# Altium footprint library BSAC.PcbLib: 26 footprints (part 1 of 2)
Each footprint in its own frame and in the unit in brackets; x right, y up, seen from the top. Pads: shape width x height; smd on the part's side, far side on the other; paste and mask are expansions set on the pad; w line width, h text height; cw(c..) or ccw(c..) is an arc to the next point about the centre after c.
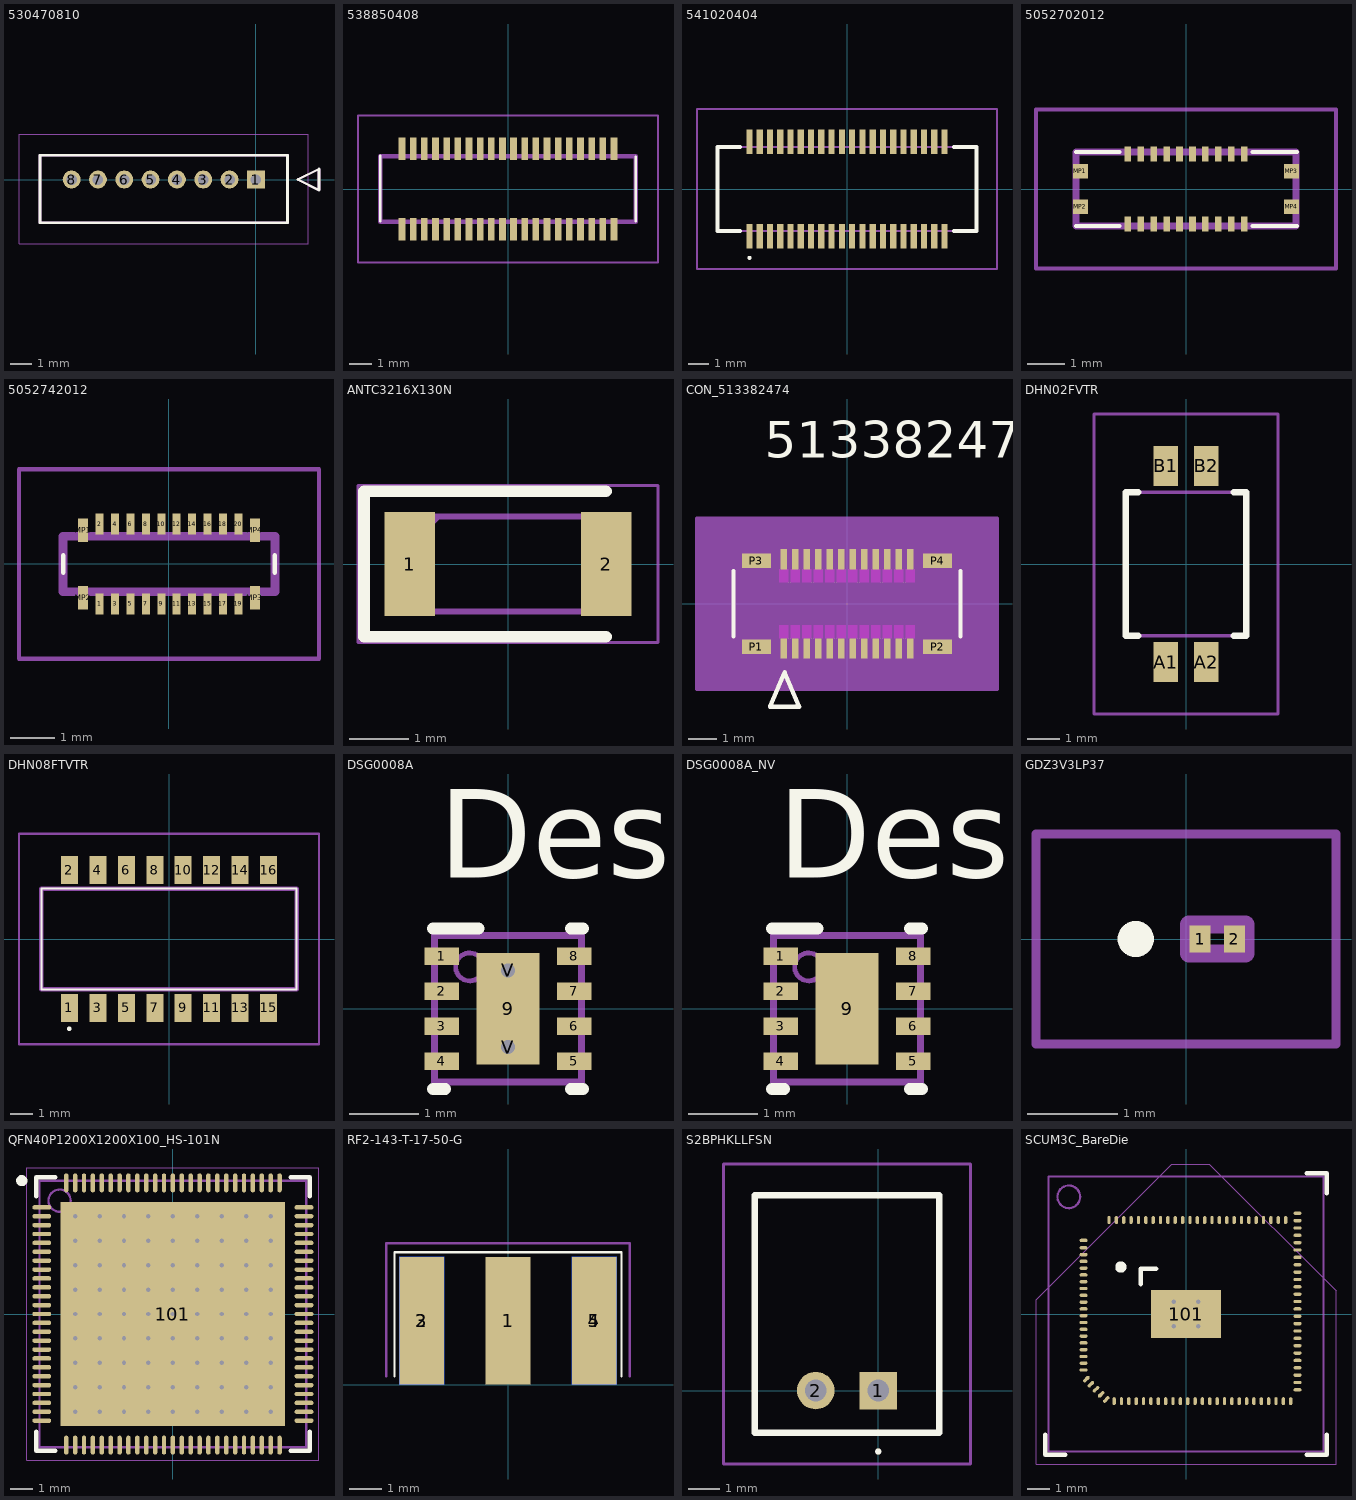
[diagram p0: the footprints below, top view; thin cyan lines are the x and y axes]

## 530470810 [mm]
pads (8):
  rect 0.85x0.85 hole 0.5: 1(0,0)
  round 0.85 hole 0.5: 2(-1.25,0) 3(-2.5,0) 4(-3.75,0) 5(-5,0) 6(-6.25,0) 7(-7.5,0) 8(-8.75,0)
Top Overlay:
  lines w0.127: -10.25,-2.05 1.5,-2.05 1.5,1.15 -10.25,1.15 -10.25,-2.05 ; 2,0 3,-0.5 3,0.5 2,0
Mechanical 13:
  lines w0.127: -10.25,-2.05 1.5,-2.05 1.5,1.15 -10.25,1.15 -10.25,-2.05 ; 2,0 3,-0.5 3,0.5 2,0
Mechanical 15:
  lines w0.05: -11.25,-3.05 2.5,-3.05 2.5,2.15 -11.25,2.15 -11.25,-3.05
3D body "530470810.stp": height 4, standoff -2.5, extent -10.275,-2 1.475,1.2

## 538850408 [mm]
pads (40):
  rect 0.3x1 smd: 1(-4.75,-1.8) 2(-4.75,1.8) 3(-4.25,-1.8) 4(-4.25,1.8) 5(-3.75,-1.8) 6(-3.75,1.8) 7(-3.25,-1.8) 8(-3.25,1.8) 9(-2.75,-1.8) 10(-2.75,1.8) 11(-2.25,-1.8) 12(-2.25,1.8) 13(-1.75,-1.8) 14(-1.75,1.8) 15(-1.25,-1.8) 16(-1.25,1.8) 17(-0.75,-1.8) 18(-0.75,1.8) 19(-0.25,-1.8) 20(-0.25,1.8) 21(0.25,-1.8) 22(0.25,1.8) 23(0.75,-1.8) 24(0.75,1.8) 25(1.25,-1.8) 26(1.25,1.8) 27(1.75,-1.8) 28(1.75,1.8) 29(2.25,-1.8) 30(2.25,1.8) 31(2.75,-1.8) 32(2.75,1.8) 33(3.25,-1.8) 34(3.25,1.8) 35(3.75,-1.8) 36(3.75,1.8) 37(4.25,-1.8) 38(4.25,1.8) 39(4.75,-1.8) 40(4.75,1.8)
Top Overlay:
  lines w0.1: -5.725,-1.46 -5.725,1.5 ; 5.725,-1.46 5.725,1.46
Mechanical 13:
  lines w0.2: -5.725,-1.46 -5.725,1.46 5.725,1.46 5.725,-1.46 -5.725,-1.46
Mechanical 15:
  lines w0.1: -6.725,-3.3 -6.725,3.3 6.725,3.3 6.725,-3.3 -6.725,-3.3
3D body "53885-0408.stp": height 1.58, standoff 0, extent -5.725,-2.1 5.725,2.1

## 541020404 [mm]
pads (40):
  rect 0.3x1.2 smd: 1(-4.75,-2.3) 2(-4.75,2.3) 3(-4.25,-2.3) 4(-4.25,2.3) 5(-3.75,-2.3) 6(-3.75,2.3) 7(-3.25,-2.3) 8(-3.25,2.3) 9(-2.75,-2.3) 10(-2.75,2.3) 11(-2.25,-2.3) 12(-2.25,2.3) 13(-1.75,-2.3) 14(-1.75,2.3) 15(-1.25,-2.3) 16(-1.25,2.3) 17(-0.75,-2.3) 18(-0.75,2.3) 19(-0.25,-2.3) 20(-0.25,2.3) 21(0.25,-2.3) 22(0.25,2.3) 23(0.75,-2.3) 24(0.75,2.3) 25(1.25,-2.3) 26(1.25,2.3) 27(1.75,-2.3) 28(1.75,2.3) 29(2.25,-2.3) 30(2.25,2.3) 31(2.75,-2.3) 32(2.75,2.3) 33(3.25,-2.3) 34(3.25,2.3) 35(3.75,-2.3) 36(3.75,2.3) 37(4.25,-2.3) 38(4.25,2.3) 39(4.75,-2.3) 40(4.75,2.3)
Top Overlay:
  lines w0.1: -4.75,-3.4 ccw(c-4.75,-3.35) -4.75,-3.3 ccw(c-4.75,-3.35) -4.75,-3.4
  lines w0.2: -5.2,-2.05 -6.3,-2.05 -6.3,2.05 -5.2,2.05 ; 5.2,-2.05 6.3,-2.05 6.3,2.05 5.2,2.05
Mechanical 13:
  lines w0.1: -6.3,-2.05 6.3,-2.05 6.3,2.05 -6.3,2.05 -6.3,-2.05
Mechanical 15:
  lines w0.1: -7.3,-3.9 7.3,-3.9 7.3,3.9 -7.3,3.9 -7.3,-3.9
3D body "54102-0404.stp": height 2.1, standoff 0, extent -6.3,-2.65 6.3,2.65

## 5052702012 [mm]
pads (24):
  rect 0.18x0.4 smd: 1(-1.575,-0.95) 2(-1.575,0.95) 3(-1.225,-0.95) 4(-1.225,0.95) 5(-0.875,-0.95) 6(-0.875,0.95) 7(-0.525,-0.95) 8(-0.525,0.95) 9(-0.175,-0.95) 10(-0.175,0.95) 11(0.175,-0.95) 12(0.175,0.95) 13(0.525,-0.95) 14(0.525,0.95) 15(0.875,-0.95) 16(0.875,0.95) 17(1.225,-0.95) 18(1.225,0.95) 19(1.575,-0.95) 20(1.575,0.95)
  rect 0.4x0.385 smd: MP1(-2.855,0.482) MP2(-2.855,-0.482) MP3(2.855,0.482) MP4(2.855,-0.482)
Top Overlay:
  lines w0.1: -2.975,-1 -1.8,-1 ; -2.975,1 -1.8,1 ; 1.8,-1 3,-1 ; 1.8,1 3,1
Mechanical 13:
  lines w0.2: -2.975,-1 2.975,-1 2.975,1 -2.975,1 -2.975,-1
Mechanical 15:
  lines w0.1: -4.055,-2.15 4.055,-2.15 4.055,2.15 -4.055,2.15 -4.055,-2.15
3D body "505270-2012.stp": height 0.68, standoff 0, extent -2.975,-1 2.975,1

## 5052742012 [mm]
pads (24):
  rect 0.18x0.485 smd: 1(-1.575,-0.907) 2(-1.575,0.908) 3(-1.225,-0.907) 4(-1.225,0.908) 5(-0.875,-0.907) 6(-0.875,0.908) 7(-0.525,-0.907) 8(-0.525,0.908) 9(-0.175,-0.907) 10(-0.175,0.908) 11(0.175,-0.907) 12(0.175,0.908) 13(0.525,-0.907) 14(0.525,0.908) 15(0.875,-0.907) 16(0.875,0.908) 17(1.225,-0.907) 18(1.225,0.908) 19(1.575,-0.907) 20(1.575,0.908)
  rect 0.23x0.535 smd: MP1(-1.95,0.768) MP2(-1.95,-0.768) MP3(1.95,-0.768) MP4(1.95,0.768)
Top Overlay:
  lines w0.1: -2.4,-0.2 -2.4,0.2 ; 2.4,-0.2 2.4,0.2
Mechanical 13:
  lines w0.2: -2.405,-0.63 -2.405,0.63 2.405,0.63 2.405,-0.63 -2.405,-0.63
Mechanical 15:
  lines w0.1: -3.405,-2.15 -3.405,2.15 3.405,2.15 3.405,-2.15 -3.405,-2.15
3D body "505274-2012.stp": height 0.65, standoff 0, extent -2.405,-1 2.405,1

## ANTC3216X130N [mm]
pads (2):
  rect 0.85x1.75 smd: 1(-1.65,0) 2(1.65,0)
Top Overlay:
  lines w0.2: 1.65,-1.225 -2.425,-1.225 -2.425,1.225 1.65,1.225
Mechanical 13:
  lines w0.1: -1.6,0.375 -1.175,0.8 ; -1.6,-0.8 -1.6,0.8 1.6,0.8 1.6,-0.8 -1.6,-0.8
Mechanical 15:
  lines w0.05: -2.525,-1.325 -2.525,1.325 2.525,1.325 2.525,-1.325 -2.525,-1.325
3D body "RFANT3216120A5T.stp": height 1.3, standoff 0, extent -1.6,-0.8 1.6,0.8

## CON_513382474 [mm]
pads (28):
  rect 0.22x0.7 smd paste+0 mask+0.025: 1(-2.2,-1.55) 2(-1.8,-1.55) 3(-1.4,-1.55) 4(-1,-1.55) 5(-0.6,-1.55) 6(-0.2,-1.55) 7(0.2,-1.55) 8(0.6,-1.55) 9(1,-1.55) 10(1.4,-1.55) 11(1.8,-1.55) 12(2.2,-1.55) 13(-2.2,1.55) 14(-1.8,1.55) 15(-1.4,1.55) 16(-1,1.55) 17(-0.6,1.55) 18(-0.2,1.55) 19(0.2,1.55) 20(0.6,1.55) 21(1,1.55) 22(1.4,1.55) 23(1.8,1.55) 24(2.2,1.55)
  rect 1x0.5 smd paste+0 mask+0.025: P1(-3.15,-1.5) P2(3.15,-1.5) P3(-3.15,1.5) P4(3.15,1.5)
Top Overlay:
  lines w0.152: -3.95,-1.139 -3.95,1.139 ; 3.95,-1.139 3.95,1.139 ; -2.68,-3.582 -1.664,-3.582 -2.172,-2.388 -2.68,-3.582
  text "513382474" at -2.857,5.08 h1.27
Keep-Out Layer:
  region: 1.65,-1.2 1.65,-0.75 1.95,-0.75 1.95,-1.2
  region: 2.051,0.75 2.051,1.2 2.351,1.2 2.351,0.75
  region: -2.35,0.75 -2.35,1.2 -2.05,1.2 -2.05,0.75
  region: -1.95,0.75 -1.95,1.2 -1.65,1.2 -1.65,0.75
  region: -1.55,0.75 -1.55,1.2 -1.25,1.2 -1.25,0.75
  region: -1.15,0.75 -1.15,1.2 -0.85,1.2 -0.85,0.75
  region: -0.75,0.75 -0.75,1.2 -0.45,1.2 -0.45,0.75
  region: -0.35,0.75 -0.35,1.2 -0.05,1.2 -0.05,0.75
  region: 0.05,0.75 0.05,1.2 0.35,1.2 0.35,0.75
  region: 0.45,0.75 0.45,1.2 0.75,1.2 0.75,0.75
  region: 0.85,0.75 0.85,1.2 1.15,1.2 1.15,0.75
  region: 1.25,0.75 1.25,1.2 1.55,1.2 1.55,0.75
  region: 1.65,0.75 1.65,1.2 1.95,1.2 1.95,0.75
  region: 2.051,-1.2 2.051,-0.75 2.351,-0.75 2.351,-1.2
  region: -2.35,-1.2 -2.35,-0.75 -2.05,-0.75 -2.05,-1.2
  region: -1.95,-1.2 -1.95,-0.75 -1.65,-0.75 -1.65,-1.2
  region: -1.55,-1.2 -1.55,-0.75 -1.25,-0.75 -1.25,-1.2
  region: -1.15,-1.2 -1.15,-0.75 -0.85,-0.75 -0.85,-1.2
  region: -0.75,-1.2 -0.75,-0.75 -0.45,-0.75 -0.45,-1.2
  region: -0.35,-1.2 -0.35,-0.75 -0.05,-0.75 -0.05,-1.2
  region: 0.05,-1.2 0.05,-0.75 0.35,-0.75 0.35,-1.2
  region: 0.45,-1.2 0.45,-0.75 0.75,-0.75 0.75,-1.2
  region: 0.85,-1.2 0.85,-0.75 1.15,-0.75 1.15,-1.2
  region: 1.25,-1.2 1.25,-0.75 1.55,-0.75 1.55,-1.2
Mechanical 13:
  lines w0.127: -3.95,-1.7 3.95,-1.7 3.95,1.7 -3.95,1.7 -3.95,-1.7 ; -2.68,-3.582 -1.664,-3.582 -2.172,-2.388 -2.68,-3.582
  text "513382474" at -2.857,5.08 h1.27
Mechanical 15:
  region: 5.22,2.97 -5.22,2.97 -5.22,-2.97 5.22,-2.97
  lines w0.127: -5.22,-2.97 -5.22,2.97 5.22,2.97 5.22,-2.97 -5.22,-2.97
3D body "513382474.stp": height 1.28, standoff -0.12, extent -3.95,-1.7 3.95,1.7

## DHN02FVTR [mm]
pads (4):
  rect 0.76x1.25 smd: A1(-0.635,-3.075) A2(0.635,-3.075) B1(-0.635,3.075) B2(0.635,3.075)
Top Overlay:
  lines w0.2: -1.5,-2.25 -1.885,-2.25 -1.885,2.25 -1.5,2.25 ; 1.5,-2.25 1.885,-2.25 1.885,2.25 1.5,2.25
Mechanical 13:
  lines w0.1: -1.885,-2.25 1.885,-2.25 1.885,2.25 -1.885,2.25 -1.885,-2.25
Mechanical 15:
  lines w0.1: -2.885,-4.7 2.885,-4.7 2.885,4.7 -2.885,4.7 -2.885,-4.7
3D body "DHN-02F-V-T_R.stp": height 1.6, standoff 0, extent -1.9,-3.35 1.9,3.35

## DHN08FTVTR [mm]
pads (16):
  rect 0.76x1.25 smd: 1(-4.445,-3.075) 2(-4.445,3.075) 3(-3.175,-3.075) 4(-3.175,3.075) 5(-1.905,-3.075) 6(-1.905,3.075) 7(-0.635,-3.075) 8(-0.635,3.075) 9(0.635,-3.075) 10(0.635,3.075) 11(1.905,-3.075) 12(1.905,3.075) 13(3.175,-3.075) 14(3.175,3.075) 15(4.445,-3.075) 16(4.445,3.075)
Top Overlay:
  lines w0.1: -5.695,-2.25 -5.695,2.25 5.695,2.25 5.695,-2.25 -5.695,-2.25 ; -4.5,-4 cw(c-4.45,-4) -4.4,-4 cw(c-4.45,-4) -4.5,-4
Mechanical 13:
  lines w0.2: -5.695,-2.25 -5.695,2.25 5.695,2.25 5.695,-2.25 -5.695,-2.25
Mechanical 15:
  lines w0.1: -6.695,-4.7 -6.695,4.7 6.695,4.7 6.695,-4.7 -6.695,-4.7
3D body "DHN-08F-T-V-T_R.stp": height 1.57, standoff 0, extent -5.695,-3.35 5.695,3.35

## DSG0008A [mm]
pads (11):
  rect 0.5x0.25 smd paste+0 mask+0.051: 1(-0.95,0.75) 2(-0.95,0.25) 3(-0.95,-0.25) 4(-0.95,-0.75) 5(0.95,-0.75) 6(0.95,-0.25) 7(0.95,0.25) 8(0.95,0.75)
  rect 0.9x1.6 smd paste-0.45 mask+0.051: 9(0,0)
  round 0.5 / inner round 1.524 / far side round 0.5 hole 0.203 paste-2539.97 mask+0.076: V(0,-0.55) V(0,0.55)
Top Overlay:
  lines w0.17: -1.075,-1.15 -0.9,-1.15 ; -1.075,1.15 -0.425,1.15 ; 0.9,-1.15 1.075,-1.15 ; 0.9,1.15 1.075,1.15
  text "Designator734" at -0.991,1.88 h1.27
Top Paste:
  region: -0.449,0.139 -0.45,0.149 -0.45,0.751 -0.449,0.761 -0.446,0.77 -0.442,0.778 -0.436,0.786 -0.428,0.792 -0.42,0.796 -0.411,0.799 -0.401,0.8 0.401,0.8 0.411,0.799 0.42,0.796 0.428,0.792 0.436,0.786 0.442,0.778 0.446,0.77 0.449,0.761 0.45,0.751 0.45,0.149 0.449,0.139 0.446,0.13 0.442,0.122 0.436,0.114 0.428,0.108 0.42,0.104 0.411,0.101 0.401,0.1 -0.401,0.1 -0.411,0.101 -0.42,0.104 -0.428,0.108 -0.436,0.114 -0.442,0.122 -0.446,0.13
  region: -0.449,-0.761 -0.45,-0.751 -0.45,-0.149 -0.449,-0.139 -0.446,-0.13 -0.442,-0.122 -0.436,-0.114 -0.428,-0.108 -0.42,-0.104 -0.411,-0.101 -0.401,-0.1 0.401,-0.1 0.411,-0.101 0.42,-0.104 0.428,-0.108 0.436,-0.114 0.442,-0.122 0.446,-0.13 0.449,-0.139 0.45,-0.149 0.45,-0.751 0.449,-0.761 0.446,-0.77 0.442,-0.778 0.436,-0.786 0.428,-0.792 0.42,-0.796 0.411,-0.799 0.401,-0.8 -0.401,-0.8 -0.411,-0.799 -0.42,-0.796 -0.428,-0.792 -0.436,-0.786 -0.442,-0.778 -0.446,-0.77
Mechanical 13:
  circle w0.07: c-0.55,0.6 r0.2
  lines w0.1: -1.05,-1.05 -1.05,1.05 1.05,1.05 1.05,-1.05 -1.05,-1.05

## DSG0008A_NV [mm]
pads (9):
  rect 0.5x0.25 smd paste+0 mask+0.051: 1(-0.95,0.75) 2(-0.95,0.25) 3(-0.95,-0.25) 4(-0.95,-0.75) 5(0.95,-0.75) 6(0.95,-0.25) 7(0.95,0.25) 8(0.95,0.75)
  rect 0.9x1.6 smd paste-0.45 mask+0.051: 9(0,0)
Top Overlay:
  lines w0.17: -1.075,-1.15 -0.9,-1.15 ; -1.075,1.15 -0.425,1.15 ; 0.9,-1.15 1.075,-1.15 ; 0.9,1.15 1.075,1.15
  text "Designator735" at -0.991,1.88 h1.27
Top Paste:
  region: -0.449,-0.761 -0.45,-0.751 -0.45,-0.149 -0.449,-0.139 -0.446,-0.13 -0.442,-0.122 -0.436,-0.114 -0.428,-0.108 -0.42,-0.104 -0.411,-0.101 -0.401,-0.1 0.401,-0.1 0.411,-0.101 0.42,-0.104 0.428,-0.108 0.436,-0.114 0.442,-0.122 0.446,-0.13 0.449,-0.139 0.45,-0.149 0.45,-0.751 0.449,-0.761 0.446,-0.77 0.442,-0.778 0.436,-0.786 0.428,-0.792 0.42,-0.796 0.411,-0.799 0.401,-0.8 -0.401,-0.8 -0.411,-0.799 -0.42,-0.796 -0.428,-0.792 -0.436,-0.786 -0.442,-0.778 -0.446,-0.77
  region: -0.449,0.139 -0.45,0.149 -0.45,0.751 -0.449,0.761 -0.446,0.77 -0.442,0.778 -0.436,0.786 -0.428,0.792 -0.42,0.796 -0.411,0.799 -0.401,0.8 0.401,0.8 0.411,0.799 0.42,0.796 0.428,0.792 0.436,0.786 0.442,0.778 0.446,0.77 0.449,0.761 0.45,0.751 0.45,0.149 0.449,0.139 0.446,0.13 0.442,0.122 0.436,0.114 0.428,0.108 0.42,0.104 0.411,0.101 0.401,0.1 -0.401,0.1 -0.411,0.101 -0.42,0.104 -0.428,0.108 -0.436,0.114 -0.442,0.122 -0.446,0.13
Mechanical 13:
  circle w0.07: c-0.55,0.6 r0.2
  lines w0.1: -1.05,-1.05 1.05,-1.05 1.05,1.05 -1.05,1.05 -1.05,-1.05

## GDZ3V3LP37 [mm]
pads (2):
  rect 0.23x0.3 smd: 1(0.155,0) 2(0.535,0)
Top Overlay:
  lines w0.2: -0.555,-0.1 ccw(c-0.555,0) -0.555,0.1 ccw(c-0.555,0) -0.555,-0.1
Mechanical 13:
  lines w0.2: 0.035,-0.16 0.655,-0.16 0.655,0.16 0.035,0.16 0.035,-0.16
Mechanical 15:
  lines w0.1: -1.655,-1.16 1.655,-1.16 1.655,1.16 -1.655,1.16 -1.655,-1.16
3D body "GDZ5V1LP3-7.stp": height 0.31, standoff 0, extent 0.045,-0.165 0.655,0.165

## QFN40P1200X1200X100_HS-101N [mm] "QFN, 100-Leads, Body 12.00x12.00mm, Pitch 0.40mm, Thermal Pad 10.10x10.10mm, IPC Medium Density"
height 1
pads (101):
  oval 0.85x0.2 smd: 1(-5.9,4.8) 2(-5.9,4.4) 3(-5.9,4) 4(-5.9,3.6) 5(-5.9,3.2) 6(-5.9,2.8) 7(-5.9,2.4) 8(-5.9,2) 9(-5.9,1.6) 10(-5.9,1.2) 11(-5.9,0.8) 12(-5.9,0.4) 13(-5.9,0) 14(-5.9,-0.4) 15(-5.9,-0.8) 16(-5.9,-1.2) 17(-5.9,-1.6) 18(-5.9,-2) 19(-5.9,-2.4) 20(-5.9,-2.8) 21(-5.9,-3.2) 22(-5.9,-3.6) 23(-5.9,-4) 24(-5.9,-4.4) 25(-5.9,-4.8) 51(5.9,-4.8) 52(5.9,-4.4) 53(5.9,-4) 54(5.9,-3.6) 55(5.9,-3.2) 56(5.9,-2.8) 57(5.9,-2.4) 58(5.9,-2) 59(5.9,-1.6) 60(5.9,-1.2) 61(5.9,-0.8) 62(5.9,-0.4) 63(5.9,0) 64(5.9,0.4) 65(5.9,0.8) 66(5.9,1.2) 67(5.9,1.6) 68(5.9,2) 69(5.9,2.4) 70(5.9,2.8) 71(5.9,3.2) 72(5.9,3.6) 73(5.9,4) 74(5.9,4.4) 75(5.9,4.8)
  oval 0.2x0.85 smd: 26(-4.8,-5.9) 27(-4.4,-5.9) 28(-4,-5.9) 29(-3.6,-5.9) 30(-3.2,-5.9) 31(-2.8,-5.9) 32(-2.4,-5.9) 33(-2,-5.9) 34(-1.6,-5.9) 35(-1.2,-5.9) 36(-0.8,-5.9) 37(-0.4,-5.9) 38(0,-5.9) 39(0.4,-5.9) 40(0.8,-5.9) 41(1.2,-5.9) 42(1.6,-5.9) 43(2,-5.9) 44(2.4,-5.9) 45(2.8,-5.9) 46(3.2,-5.9) 47(3.6,-5.9) 48(4,-5.9) 49(4.4,-5.9) 50(4.8,-5.9) 76(4.8,5.9) 77(4.4,5.9) 78(4,5.9) 79(3.6,5.9) 80(3.2,5.9) 81(2.8,5.9) 82(2.4,5.9) 83(2,5.9) 84(1.6,5.9) 85(1.2,5.9) 86(0.8,5.9) 87(0.4,5.9) 88(0,5.9) 89(-0.4,5.9) 90(-0.8,5.9) 91(-1.2,5.9) 92(-1.6,5.9) 93(-2,5.9) 94(-2.4,5.9) 95(-2.8,5.9) 96(-3.2,5.9) 97(-3.6,5.9) 98(-4,5.9) 99(-4.4,5.9) 100(-4.8,5.9)
  rect 10.1x10.1 smd: 101(0,0)
via 4.4,-4.4 diameter 0.5 hole 0.2
via 3.3,-4.4 diameter 0.5 hole 0.2
via 2.2,-4.4 diameter 0.5 hole 0.2
via 1.1,-4.4 diameter 0.5 hole 0.2
via 0,-4.4 diameter 0.5 hole 0.2
via -1.1,-4.4 diameter 0.5 hole 0.2
via -2.2,-4.4 diameter 0.5 hole 0.2
via -3.3,-4.4 diameter 0.5 hole 0.2
via -4.4,-4.4 diameter 0.5 hole 0.2
via 4.4,-3.3 diameter 0.5 hole 0.2
via 3.3,-3.3 diameter 0.5 hole 0.2
via 2.2,-3.3 diameter 0.5 hole 0.2
via 1.1,-3.3 diameter 0.5 hole 0.2
via 0,-3.3 diameter 0.5 hole 0.2
via -1.1,-3.3 diameter 0.5 hole 0.2
via -2.2,-3.3 diameter 0.5 hole 0.2
via -3.3,-3.3 diameter 0.5 hole 0.2
via -4.4,-3.3 diameter 0.5 hole 0.2
via 4.4,-2.2 diameter 0.5 hole 0.2
via 3.3,-2.2 diameter 0.5 hole 0.2
via 2.2,-2.2 diameter 0.5 hole 0.2
via 1.1,-2.2 diameter 0.5 hole 0.2
via 0,-2.2 diameter 0.5 hole 0.2
via -1.1,-2.2 diameter 0.5 hole 0.2
via -2.2,-2.2 diameter 0.5 hole 0.2
via -3.3,-2.2 diameter 0.5 hole 0.2
via -4.4,-2.2 diameter 0.5 hole 0.2
via 4.4,-1.1 diameter 0.5 hole 0.2
via 3.3,-1.1 diameter 0.5 hole 0.2
via 2.2,-1.1 diameter 0.5 hole 0.2
via 1.1,-1.1 diameter 0.5 hole 0.2
via 0,-1.1 diameter 0.5 hole 0.2
via -1.1,-1.1 diameter 0.5 hole 0.2
via -2.2,-1.1 diameter 0.5 hole 0.2
via -3.3,-1.1 diameter 0.5 hole 0.2
via -4.4,-1.1 diameter 0.5 hole 0.2
via 4.4,0 diameter 0.5 hole 0.2
via 3.3,0 diameter 0.5 hole 0.2
via 2.2,0 diameter 0.5 hole 0.2
via 1.1,0 diameter 0.5 hole 0.2
via 0,0 diameter 0.5 hole 0.2
via -1.1,0 diameter 0.5 hole 0.2
via -2.2,0 diameter 0.5 hole 0.2
via -3.3,0 diameter 0.5 hole 0.2
via -4.4,0 diameter 0.5 hole 0.2
via 4.4,1.1 diameter 0.5 hole 0.2
via 3.3,1.1 diameter 0.5 hole 0.2
via 2.2,1.1 diameter 0.5 hole 0.2
via 1.1,1.1 diameter 0.5 hole 0.2
via 0,1.1 diameter 0.5 hole 0.2
via -1.1,1.1 diameter 0.5 hole 0.2
via -2.2,1.1 diameter 0.5 hole 0.2
via -3.3,1.1 diameter 0.5 hole 0.2
via -4.4,1.1 diameter 0.5 hole 0.2
via 4.4,2.2 diameter 0.5 hole 0.2
via 3.3,2.2 diameter 0.5 hole 0.2
via 2.2,2.2 diameter 0.5 hole 0.2
via 1.1,2.2 diameter 0.5 hole 0.2
via 0,2.2 diameter 0.5 hole 0.2
via -1.1,2.2 diameter 0.5 hole 0.2
via -2.2,2.2 diameter 0.5 hole 0.2
via -3.3,2.2 diameter 0.5 hole 0.2
via -4.4,2.2 diameter 0.5 hole 0.2
via 4.4,3.3 diameter 0.5 hole 0.2
via 3.3,3.3 diameter 0.5 hole 0.2
via 2.2,3.3 diameter 0.5 hole 0.2
via 1.1,3.3 diameter 0.5 hole 0.2
via 0,3.3 diameter 0.5 hole 0.2
via -1.1,3.3 diameter 0.5 hole 0.2
via -2.2,3.3 diameter 0.5 hole 0.2
via -3.3,3.3 diameter 0.5 hole 0.2
via -4.4,3.3 diameter 0.5 hole 0.2
via 4.4,4.4 diameter 0.5 hole 0.2
via 3.3,4.4 diameter 0.5 hole 0.2
via 2.2,4.4 diameter 0.5 hole 0.2
via 1.1,4.4 diameter 0.5 hole 0.2
via 0,4.4 diameter 0.5 hole 0.2
via -1.1,4.4 diameter 0.5 hole 0.2
via -2.2,4.4 diameter 0.5 hole 0.2
via -3.3,4.4 diameter 0.5 hole 0.2
via -4.4,4.4 diameter 0.5 hole 0.2
Top Overlay:
  circle w0.25: c-6.8,6 r0.125
  lines w0.2: -6.15,-5.3 -6.15,-6.15 -5.3,-6.15 ; -6.15,5.3 -6.15,6.15 -5.3,6.15 ; 5.3,-6.15 6.15,-6.15 6.15,-5.3 ; 5.3,6.15 6.15,6.15 6.15,5.3
Top Assembly:
  circle w0.1: c-5.1,5.1 r0.5
  lines w0.1: -6,-6 6,-6 6,6 -6,6 -6,-6
Mechanical 15:
  lines w0.05: -6.575,-6.575 6.575,-6.575 6.575,6.575 -6.575,6.575 -6.575,-6.575
  lines w0.1: -0.5,0 0.5,0 ; 0,-0.5 0,0.5
3D body "QFN40P1200X1200X100_HS-101N.step": height 1, standoff 0, extent -6.001,-6.001 6.001,6.001

## RF2-143-T-17-50-G [mm]
pads (5):
  rect 1.4x4 smd paste-0.305 mask+0: 1(0,2)
  rect 1.4x4 smd far side paste-0.7 mask+0: 2(-2.7,2) 5(2.7,2)
  rect 1.4x4 smd paste-0.7 mask+0: 3(-2.7,2) 4(2.7,2)
Top Overlay:
  lines w0.076: -3.556,0.254 -3.556,4.15 3.556,4.15 3.556,0.254
Mechanical 15:
  lines w0.076: -3.81,0.254 -3.81,4.425 3.81,4.425 3.81,0.254
3D body "RF2-143-T-17-50-G.stp": height 3.82, standoff -2.53, extent -3.175,-9.5 3.175,3.9

## S2BPHKLLFSN [mm]
pads (2):
  rect 1.2x1.2 hole 0.7: 1(0,0)
  round 1.2 hole 0.7: 2(-2,0)
Top Overlay:
  lines w0.1: 0,-2 cw(c0,-1.95) 0,-1.9 cw(c0,-1.95) 0,-2
  lines w0.2: -3.95,-1.35 -3.95,6.25 1.95,6.25 1.95,-1.35 -3.95,-1.35
Mechanical 13:
  lines w0.1: -3.95,-1.35 -3.95,6.25 1.95,6.25 1.95,-1.35 -3.95,-1.35
Mechanical 15:
  lines w0.1: -4.95,-2.35 -4.95,7.25 2.95,7.25 2.95,-2.35 -4.95,-2.35
3D body "S2B-PH-KL_LF__SN_.stp": height 4.9, standoff -5, extent -3.95,-1.35 1.95,6.25

## SCUM3C_BareDie [mm] "SCuM-3C Bare Die package for wire bonding"
height 1.5
pads (101):
  oval 0.35x0.15 smd mask+0.05: 1(-4.525,3.25) 2(-4.525,2.925) 3(-4.525,2.625) 4(-4.525,2.325) 5(-4.525,2.025) 6(-4.525,1.725) 7(-4.525,1.425) 8(-4.525,1.125) 9(-4.525,0.825) 10(-4.525,0.525) 11(-4.525,0.225) 12(-4.525,-0.075) 13(-4.525,-0.375) 14(-4.525,-0.675) 15(-4.525,-0.975) 16(-4.525,-1.275) 17(-4.525,-1.575) 18(-4.525,-1.875) 19(-4.525,-2.175) 20(-4.525,-2.475) 51(4.925,-3.35) 52(4.925,-3.025) 53(4.925,-2.7) 54(4.925,-2.375) 55(4.925,-2.05) 56(4.925,-1.725) 57(4.925,-1.4) 58(4.925,-1.075) 59(4.925,-0.75) 60(4.925,-0.425) 61(4.925,-0.1) 62(4.925,0.225) 63(4.925,0.55) 64(4.925,0.875) 65(4.925,1.2) 66(4.925,1.525) 67(4.925,1.85) 68(4.925,2.175) 69(4.925,2.5) 70(4.925,2.825) 71(4.925,3.15) 72(4.925,3.475) 73(4.925,3.8) 74(4.925,4.125) 75(4.925,4.45)
  oval 0.15x0.35 smd rot 135 mask+0.05: 21(-4.4,-2.875) 22(-4.2,-3.1) 23(-3.975,-3.325) 24(-3.75,-3.55) 25(-3.525,-3.775)
  oval 0.15x0.35 smd mask+0.05: 26(-3.175,-3.85) 27(-2.85,-3.85) 28(-2.525,-3.85) 29(-2.2,-3.85) 30(-1.875,-3.85) 31(-1.55,-3.85) 32(-1.225,-3.85) 33(-0.9,-3.85) 34(-0.575,-3.85) 35(-0.25,-3.85) 36(0.075,-3.85) 37(0.4,-3.85) 38(0.725,-3.85) 39(1.05,-3.85) 40(1.375,-3.85) 41(1.7,-3.85) 42(2.025,-3.85) 43(2.35,-3.85) 44(2.675,-3.85) 45(3,-3.85) 46(3.325,-3.85) 47(3.65,-3.85) 48(3.975,-3.85) 49(4.3,-3.85) 50(4.625,-3.85) 76(4.4,4.15) 77(4.075,4.15) 78(3.75,4.15) 79(3.425,4.15) 80(3.1,4.15) 81(2.775,4.15) 82(2.45,4.15) 83(2.125,4.15) 84(1.8,4.15) 85(1.475,4.15) 86(1.15,4.15) 87(0.825,4.15) 88(0.5,4.15) 89(0.175,4.15) 90(-0.15,4.15) 91(-0.475,4.15) 92(-0.8,4.15) 93(-1.125,4.15) 94(-1.45,4.15) 95(-1.775,4.15) 96(-2.1,4.15) 97(-2.425,4.15) 98(-2.75,4.15) 99(-3.075,4.15) 100(-3.4,4.15)
  rect 3.1x2.1 smd: 101(0,0)
via 0.55,-0.55 diameter 0.5 hole 0.2
via -0.55,-0.55 diameter 0.5 hole 0.2
via 0.55,0.55 diameter 0.5 hole 0.2
via -0.55,0.55 diameter 0.5 hole 0.2
Top Overlay:
  circle w0.25: c-2.875,2.075 r0.125
  lines w0.2: -6.225,-5.325 -6.225,-6.225 -5.325,-6.225 ; -2,1.325 -2,2 -1.325,2 ; 5.325,-6.225 6.225,-6.225 6.225,-5.325 ; 5.325,6.225 6.225,6.225 6.225,5.325
Mechanical 13:
  circle w0.1: c-5.175,5.175 r0.5
  lines w0.1: -6.075,-6.075 6.075,-6.075 6.075,6.075 -6.075,6.075 -6.075,-6.075
Mechanical 15:
  lines w0.05: -6.625,-6.625 6.625,-6.625 6.625,1.02 1.02,6.625 -0.639,6.625 -6.625,0.639 -6.625,-6.625
  lines w0.1: -0.5,0 0.5,0 ; 0,-0.5 0,0.5
3D body "QFN40P1200X1200X150_HS-101N_2.step": height 1.5, standoff 0, extent -20.17,-3.085 -8,9.085